# EAGLE library part DB-15- (library _mtvl.connectors)
DB-15
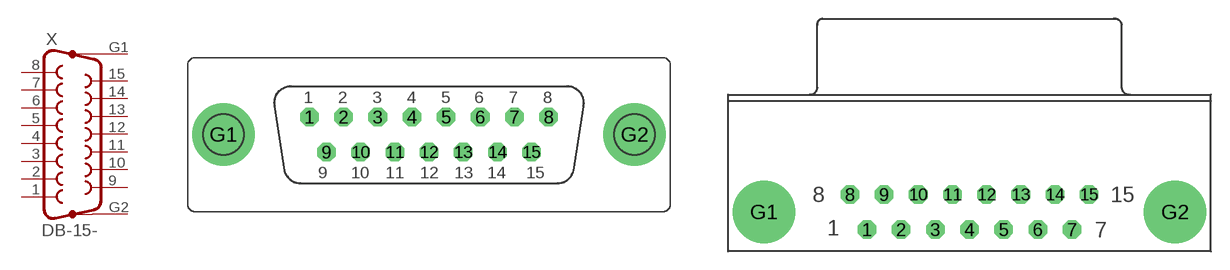
[diagram p32: symbol with the pads of DS1034-15M; footprints DS1034-15M, DBR-15FA]

Designator prefix X

## DB-15-M  [DS1034-15M]
1  1  pas
2  2  pas
3  3  pas
4  4  pas
5  5  pas
6  6  pas
7  7  pas
8  8  pas
9  9  pas
10  10  pas
11  11  pas
12  12  pas
13  13  pas
14  14  pas
15  15  pas
G1  G1  pas
G2  G2  pas

## DB-15-DRB-15FA  [DBR-15FA]
Pads as for DS1034-15M

## DB-15-DHR-15F  [DHR-15F]
Pads as for DS1034-15M

## Footprint DS1034-15M (pad centres in mm)
DPBS-15M (DS1034 15M) Ningbo connfly electronic (Zhenqin)
drill 1 octagon: 1 -9.695,1.422; 2 -6.925,1.422; 3 -4.155,1.422; 4 -1.385,1.422; 5 1.385,1.422; 6 4.155,1.422; 7 6.925,1.422; 8 9.695,1.422; 9 -8.31,-1.422; 10 -5.54,-1.422; 11 -2.77,-1.422; 12 0,-1.422; 13 2.77,-1.422; 14 5.54,-1.422; 15 8.31,-1.422
drill 3.302 pad 5.08: G1 -16.662,0; G2 16.662,0

## Footprint DBR-15FA (pad centres in mm)
DRB-15FA D-SUB Connector (DS-1037 - 15 - F) by Connfly PartNumber: DS1037-15FNAKT74-0CC
drill 1 octagon: 1 -8.31,-1.42; 2 -5.54,-1.42; 3 -2.77,-1.42; 4 0,-1.42; 5 2.77,-1.42; 6 5.54,-1.42; 7 8.31,-1.42; 8 -9.695,1.42; 9 -6.925,1.42; 10 -4.155,1.42; 11 -1.385,1.42; 12 1.385,1.42; 13 4.155,1.42; 14 6.925,1.42; 15 9.695,1.42
drill 3.302 pad 5.08: G1 -16.66,0; G2 16.66,0

## Footprint DHR-15F (pad centres in mm)
DHR-15FB (DS1038-15F) https://static.chipdip.ru/lib/119/DOC004119982.pdf
drill 0.9 octagon: 1 -4.329,-2.54; 2 -2.043,-2.54; 3 0.243,-2.54; 4 2.529,-2.54; 5 4.815,-2.54; 6 -5.472,0; 7 -3.186,0; 8 -0.9,0; 9 1.386,0; 10 3.672,0; 11 -4.329,2.54; 12 -2.043,2.54; 13 0.243,2.54; 14 2.529,2.54; 15 4.815,2.54
drill 3: G1 12.5,0; G2 -12.5,0